# EAGLE library part TEXAS_LM2675M-5.0 (library Mainboard)
Step-Down Voltage Regulator
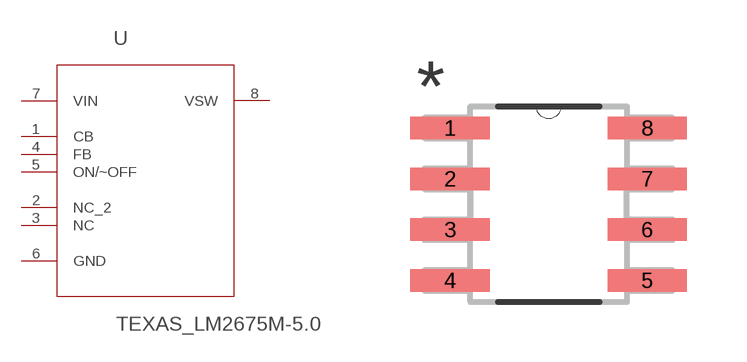
[diagram p9: symbol with the pads of TEXAS_SOIC127P620X175-8N; footprint TEXAS_SOIC127P620X175-8N]

Designator prefix U

## TEXAS_LM2675M-5.0 (MPN: LM2675M-5.0; OC_FARNELL: 9489746; OC_NEWARK: 41K4141; PACKAGE: 8-SOIC; SUPPLIER: National Semiconductors)  [TEXAS_SOIC127P620X175-8N]
1  CB  in
2  NC_2  nc
3  NC  nc
4  FB  in
5  ON/~OFF  in
6  GND  pas
7  VIN  pwr
8  VSW  out

## Footprint TEXAS_SOIC127P620X175-8N (pad centres in mm)
smd 1.981 x 0.559: 1 -2.464,1.905; 2 -2.464,0.635; 3 -2.464,-0.635; 4 -2.464,-1.905; 5 2.464,-1.905; 6 2.464,-0.635; 7 2.464,0.635; 8 2.464,1.905